# EAGLE library part MK21DX128VLK5 (library MK21DX128)
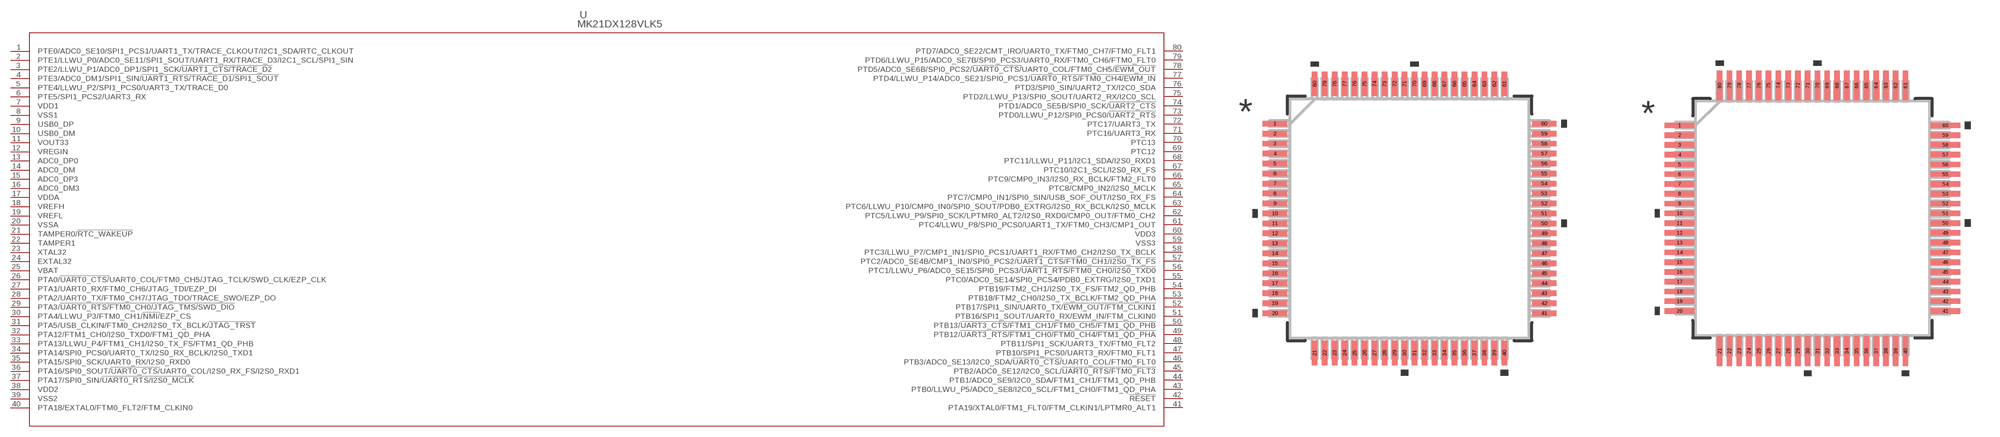
[diagram p0: symbol with the pads of 98ASS23174W_NXP; footprints 98ASS23174W_NXP, 98ASS23174W_NXP-M]

Designator prefix U

## MK21DX128VLK5 (COPYRIGHT: Copyright (C) 2022 Ultra Librarian. All rights reserved.; MANUFACTURER_PART_NUMBER: MK21DX128VLK5; MFR_NAME: NXP)  [98ASS23174W_NXP]
1  PTE0/ADC0_SE10/SPI1_PCS1/UART1_TX/TRACE_CLKOUT/I2C1_SDA/RTC_CLKOUT
2  PTE1/LLWU_P0/ADC0_SE11/SPI1_SOUT/UART1_RX/TRACE_D3/I2C1_SCL/SPI1_SIN
3  PTE2/LLWU_P1/ADC0_DP1/SPI1_SCK/!UART1_CTS/TRACE_D2
4  PTE3/ADC0_DM1/SPI1_SIN/!UART1_RTS/TRACE_D1/SPI1_SOUT
5  PTE4/LLWU_P2/SPI1_PCS0/UART3_TX/TRACE_D0
6  PTE5/SPI1_PCS2/UART3_RX
7  VDD1  pwr
8  VSS1  pwr
9  USB0_DP  pas
10  USB0_DM  pas
11  VOUT33  out
12  VREGIN  in
13  ADC0_DP0  pas
14  ADC0_DM  pas
15  ADC0_DP3  pas
16  ADC0_DM3  pas
17  VDDA  pwr
18  VREFH  pwr
19  VREFL  pwr
20  VSSA  pwr
21  TAMPER0/!RTC_WAKEUP
22  TAMPER1  pas
23  XTAL32  pas
24  EXTAL32  pas
25  VBAT  pwr
26  PTA0/!UART0_CTS/!UART0_COL/FTM0_CH5/JTAG_TCLK/SWD_CLK/EZP_CLK
27  PTA1/UART0_RX/FTM0_CH6/JTAG_TDI/EZP_DI
28  PTA2/UART0_TX/FTM0_CH7/JTAG_TDO/TRACE_SWO/EZP_DO
29  PTA3/!UART0_RTS/FTM0_CH0/JTAG_TMS/SWD_DIO
30  PTA4/LLWU_P3/FTM0_CH1/!NMI/!EZP_CS
31  PTA5/USB_CLKIN/FTM0_CH2/I2S0_TX_BCLK/!JTAG_TRST
32  PTA12/FTM1_CH0/I2S0_TXD0/FTM1_QD_PHA
33  PTA13/LLWU_P4/FTM1_CH1/I2S0_TX_FS/FTM1_QD_PHB
34  PTA14/SPI0_PCS0/UART0_TX/I2S0_RX_BCLK/I2S0_TXD1
35  PTA15/SPI0_SCK/UART0_RX/I2S0_RXD0
36  PTA16/SPI0_SOUT/!UART0_CTS/!UART0_COL/I2S0_RX_FS/I2S0_RXD1
37  PTA17/SPI0_SIN/!UART0_RTS/I2S0_MCLK
38  VDD2  pwr
39  VSS2  pwr
40  PTA18/EXTAL0/FTM0_FLT2/FTM_CLKIN0
41  PTA19/XTAL0/FTM1_FLT0/FTM_CLKIN1/LPTMR0_ALT1
42  !RESET  pas
43  PTB0/LLWU_P5/ADC0_SE8/I2C0_SCL/FTM1_CH0/FTM1_QD_PHA
44  PTB1/ADC0_SE9/I2C0_SDA/FTM1_CH1/FTM1_QD_PHB
45  PTB2/ADC0_SE12/I2C0_SCL/!UART0_RTS/FTM0_FLT3
46  PTB3/ADC0_SE13/I2C0_SDA/!UART0_CTS/!UART0_COL/FTM0_FLT0
47  PTB10/SPI1_PCS0/UART3_RX/FTM0_FLT1
48  PTB11/SPI1_SCK/UART3_TX/FTM0_FLT2
49  PTB12/!UART3_RTS/FTM1_CH0/FTM0_CH4/FTM1_QD_PHA
50  PTB13/!UART3_CTS/FTM1_CH1/FTM0_CH5/FTM1_QD_PHB
51  PTB16/SPI1_SOUT/UART0_RX/EWM_IN/FTM_CLKIN0
52  PTB17/SPI1_SIN/UART0_TX/!EWM_OUT/FTM_CLKIN1
53  PTB18/FTM2_CH0/I2S0_TX_BCLK/FTM2_QD_PHA
54  PTB19/FTM2_CH1/I2S0_TX_FS/FTM2_QD_PHB
55  PTC0/ADC0_SE14/SPI0_PCS4/PDB0_EXTRG/I2S0_TXD1
56  PTC1/LLWU_P6/ADC0_SE15/SPI0_PCS3/!UART1_RTS/FTM0_CH0/I2S0_TXD0
57  PTC2/ADC0_SE4B/CMP1_IN0/SPI0_PCS2/!UART1_CTS/FTM0_CH1/I2S0_TX_FS
58  PTC3/LLWU_P7/CMP1_IN1/SPI0_PCS1/UART1_RX/FTM0_CH2/I2S0_TX_BCLK
59  VSS3  pwr
60  VDD3  pwr
61  PTC4/LLWU_P8/SPI0_PCS0/UART1_TX/FTM0_CH3/CMP1_OUT
62  PTC5/LLWU_P9/SPI0_SCK/LPTMR0_ALT2/I2S0_RXD0/CMP0_OUT/FTM0_CH2
63  PTC6/LLWU_P10/CMP0_IN0/SPI0_SOUT/PDB0_EXTRG/I2S0_RX_BCLK/I2S0_MCLK
64  PTC7/CMP0_IN1/SPI0_SIN/USB_SOF_OUT/I2S0_RX_FS
65  PTC8/CMP0_IN2/I2S0_MCLK
66  PTC9/CMP0_IN3/I2S0_RX_BCLK/FTM2_FLT0
67  PTC10/I2C1_SCL/I2S0_RX_FS
68  PTC11/LLWU_P11/I2C1_SDA/I2S0_RXD1
69  PTC12  pas
70  PTC13  pas
71  PTC16/UART3_RX
72  PTC17/UART3_TX
73  PTD0/LLWU_P12/SPI0_PCS0/!UART2_RTS
74  PTD1/ADC0_SE5B/SPI0_SCK/!UART2_CTS
75  PTD2/LLWU_P13/SPI0_SOUT/UART2_RX/I2C0_SCL
76  PTD3/SPI0_SIN/UART2_TX/I2C0_SDA
77  PTD4/LLWU_P14/ADC0_SE21/SPI0_PCS1/!UART0_RTS/FTM0_CH4/EWM_IN
78  PTD5/ADC0_SE6B/SPI0_PCS2/!UART0_CTS/!UART0_COL/FTM0_CH5/!EWM_OUT
79  PTD6/LLWU_P15/ADC0_SE7B/SPI0_PCS3/UART0_RX/FTM0_CH6/FTM0_FLT0
80  PTD7/ADC0_SE22/CMT_IRO/UART0_TX/FTM0_CH7/FTM0_FLT1

## MK21DX128VLK598ASS23174W_NXP-M (COPYRIGHT: Copyright (C) 2022 Ultra Librarian. All rights reserved.; MANUFACTURER_PART_NUMBER: MK21DX128VLK5; MFR_NAME: NXP)  [98ASS23174W_NXP-M]
Pads as for 98ASS23174W_NXP

## MK21DX128VLK598ASS23174W_NXP-L (COPYRIGHT: Copyright (C) 2022 Ultra Librarian. All rights reserved.; MANUFACTURER_PART_NUMBER: MK21DX128VLK5; MFR_NAME: NXP)  [98ASS23174W_NXP-L]
Pads as for 98ASS23174W_NXP

## Footprint 98ASS23174W_NXP (pad centres in mm)
smd 1.219 x 0.279: 1 -6.744,4.75; 2 -6.744,4.25; 3 -6.744,3.75; 4 -6.744,3.25; 5 -6.744,2.75; 6 -6.744,2.25; 7 -6.744,1.75; 8 -6.744,1.25; 9 -6.744,0.75; 10 -6.744,0.25; 11 -6.744,-0.25; 12 -6.744,-0.75; 13 -6.744,-1.25; 14 -6.744,-1.75; 15 -6.744,-2.25; 16 -6.744,-2.75; 17 -6.744,-3.25; 18 -6.744,-3.75; 19 -6.744,-4.25; 20 -6.744,-4.75; 41 6.744,-4.75; 42 6.744,-4.25; 43 6.744,-3.75; 44 6.744,-3.25; 45 6.744,-2.75; 46 6.744,-2.25; 47 6.744,-1.75; 48 6.744,-1.25; 49 6.744,-0.75; 50 6.744,-0.25; 51 6.744,0.25; 52 6.744,0.75; 53 6.744,1.25; 54 6.744,1.75; 55 6.744,2.25; 56 6.744,2.75; 57 6.744,3.25; 58 6.744,3.75; 59 6.744,4.25; 60 6.744,4.75
smd 0.279 x 1.219: 21 -4.75,-6.744; 22 -4.25,-6.744; 23 -3.75,-6.744; 24 -3.25,-6.744; 25 -2.75,-6.744; 26 -2.25,-6.744; 27 -1.75,-6.744; 28 -1.25,-6.744; 29 -0.75,-6.744; 30 -0.25,-6.744; 31 0.25,-6.744; 32 0.75,-6.744; 33 1.25,-6.744; 34 1.75,-6.744; 35 2.25,-6.744; 36 2.75,-6.744; 37 3.25,-6.744; 38 3.75,-6.744; 39 4.25,-6.744; 40 4.75,-6.744; 61 4.75,6.744; 62 4.25,6.744; 63 3.75,6.744; 64 3.25,6.744; 65 2.75,6.744; 66 2.25,6.744; 67 1.75,6.744; 68 1.25,6.744; 69 0.75,6.744; 70 0.25,6.744; 71 -0.25,6.744; 72 -0.75,6.744; 73 -1.25,6.744; 74 -1.75,6.744; 75 -2.25,6.744; 76 -2.75,6.744; 77 -3.25,6.744; 78 -3.75,6.744; 79 -4.25,6.744; 80 -4.75,6.744

## Footprint 98ASS23174W_NXP-M (pad centres in mm)
smd 1.524 x 0.279: 1 -6.795,4.75; 2 -6.795,4.25; 3 -6.795,3.75; 4 -6.795,3.25; 5 -6.795,2.75; 6 -6.795,2.25; 7 -6.795,1.75; 8 -6.795,1.25; 9 -6.795,0.75; 10 -6.795,0.25; 11 -6.795,-0.25; 12 -6.795,-0.75; 13 -6.795,-1.25; 14 -6.795,-1.75; 15 -6.795,-2.25; 16 -6.795,-2.75; 17 -6.795,-3.25; 18 -6.795,-3.75; 19 -6.795,-4.25; 20 -6.795,-4.75; 41 6.795,-4.75; 42 6.795,-4.25; 43 6.795,-3.75; 44 6.795,-3.25; 45 6.795,-2.75; 46 6.795,-2.25; 47 6.795,-1.75; 48 6.795,-1.25; 49 6.795,-0.75; 50 6.795,-0.25; 51 6.795,0.25; 52 6.795,0.75; 53 6.795,1.25; 54 6.795,1.75; 55 6.795,2.25; 56 6.795,2.75; 57 6.795,3.25; 58 6.795,3.75; 59 6.795,4.25; 60 6.795,4.75
smd 0.279 x 1.524: 21 -4.75,-6.795; 22 -4.25,-6.795; 23 -3.75,-6.795; 24 -3.25,-6.795; 25 -2.75,-6.795; 26 -2.25,-6.795; 27 -1.75,-6.795; 28 -1.25,-6.795; 29 -0.75,-6.795; 30 -0.25,-6.795; 31 0.25,-6.795; 32 0.75,-6.795; 33 1.25,-6.795; 34 1.75,-6.795; 35 2.25,-6.795; 36 2.75,-6.795; 37 3.25,-6.795; 38 3.75,-6.795; 39 4.25,-6.795; 40 4.75,-6.795; 61 4.75,6.795; 62 4.25,6.795; 63 3.75,6.795; 64 3.25,6.795; 65 2.75,6.795; 66 2.25,6.795; 67 1.75,6.795; 68 1.25,6.795; 69 0.75,6.795; 70 0.25,6.795; 71 -0.25,6.795; 72 -0.75,6.795; 73 -1.25,6.795; 74 -1.75,6.795; 75 -2.25,6.795; 76 -2.75,6.795; 77 -3.25,6.795; 78 -3.75,6.795; 79 -4.25,6.795; 80 -4.75,6.795

## Footprint 98ASS23174W_NXP-L (pad centres in mm)
smd 0.914 x 0.229: 1 -6.693,4.75; 2 -6.693,4.25; 3 -6.693,3.75; 4 -6.693,3.25; 5 -6.693,2.75; 6 -6.693,2.25; 7 -6.693,1.75; 8 -6.693,1.25; 9 -6.693,0.75; 10 -6.693,0.25; 11 -6.693,-0.25; 12 -6.693,-0.75; 13 -6.693,-1.25; 14 -6.693,-1.75; 15 -6.693,-2.25; 16 -6.693,-2.75; 17 -6.693,-3.25; 18 -6.693,-3.75; 19 -6.693,-4.25; 20 -6.693,-4.75; 41 6.693,-4.75; 42 6.693,-4.25; 43 6.693,-3.75; 44 6.693,-3.25; 45 6.693,-2.75; 46 6.693,-2.25; 47 6.693,-1.75; 48 6.693,-1.25; 49 6.693,-0.75; 50 6.693,-0.25; 51 6.693,0.25; 52 6.693,0.75; 53 6.693,1.25; 54 6.693,1.75; 55 6.693,2.25; 56 6.693,2.75; 57 6.693,3.25; 58 6.693,3.75; 59 6.693,4.25; 60 6.693,4.75
smd 0.229 x 0.914: 21 -4.75,-6.693; 22 -4.25,-6.693; 23 -3.75,-6.693; 24 -3.25,-6.693; 25 -2.75,-6.693; 26 -2.25,-6.693; 27 -1.75,-6.693; 28 -1.25,-6.693; 29 -0.75,-6.693; 30 -0.25,-6.693; 31 0.25,-6.693; 32 0.75,-6.693; 33 1.25,-6.693; 34 1.75,-6.693; 35 2.25,-6.693; 36 2.75,-6.693; 37 3.25,-6.693; 38 3.75,-6.693; 39 4.25,-6.693; 40 4.75,-6.693; 61 4.75,6.693; 62 4.25,6.693; 63 3.75,6.693; 64 3.25,6.693; 65 2.75,6.693; 66 2.25,6.693; 67 1.75,6.693; 68 1.25,6.693; 69 0.75,6.693; 70 0.25,6.693; 71 -0.25,6.693; 72 -0.75,6.693; 73 -1.25,6.693; 74 -1.75,6.693; 75 -2.25,6.693; 76 -2.75,6.693; 77 -3.25,6.693; 78 -3.75,6.693; 79 -4.25,6.693; 80 -4.75,6.693